# Altium footprint library SOT_SMD.PcbLib: 23 footprints (part 2 of 2)
Each footprint in its own frame and in the unit in brackets; x right, y up, seen from the top. Pads: shape width x height; smd on the part's side, far side on the other; paste and mask are expansions set on the pad; w line width, h text height; cw(c..) or ccw(c..) is an arc to the next point about the centre after c.
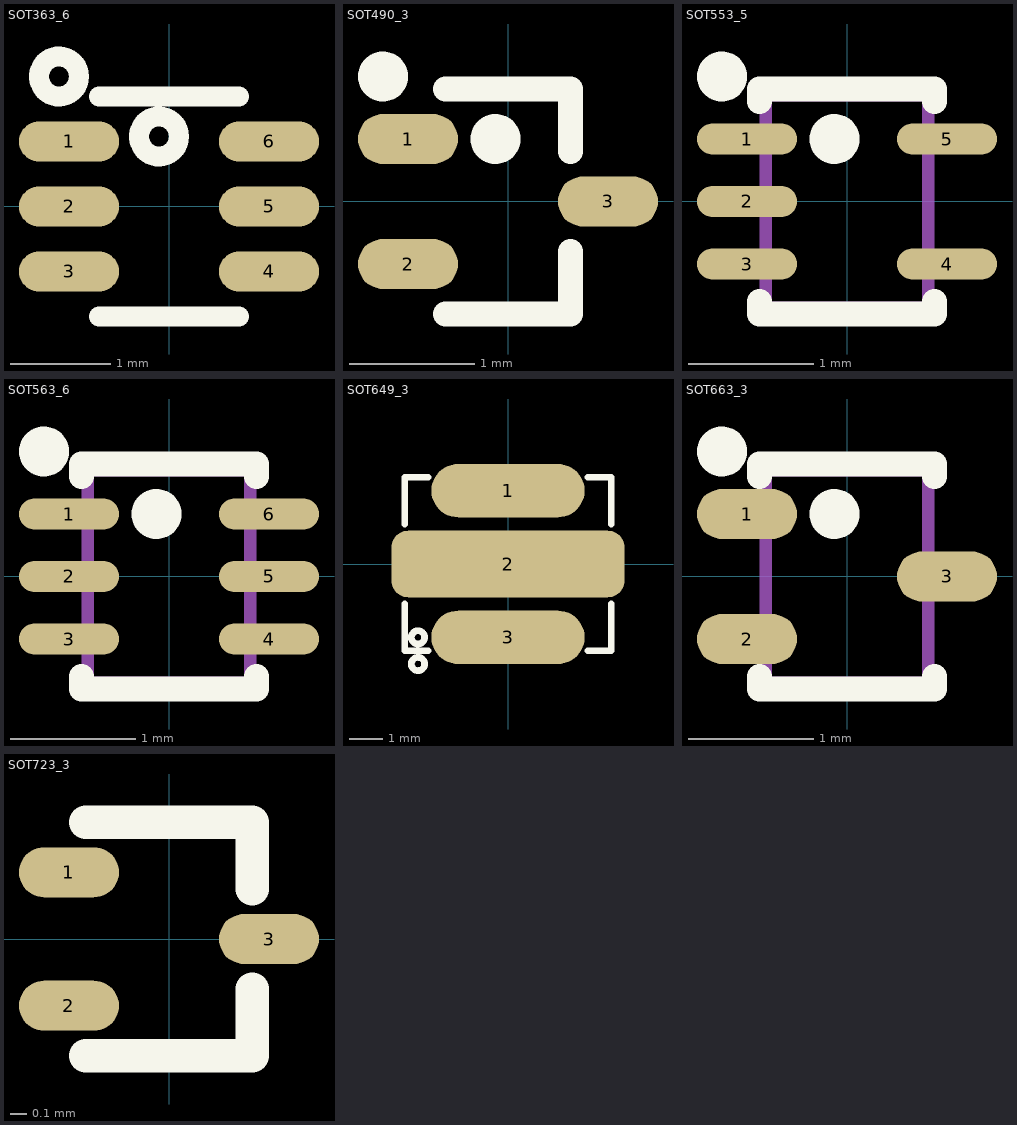
[diagram p1: the footprints below, top view; thin cyan lines are the x and y axes]

## SOT363_6 [mm] "SOT-363, SC-70-6, DCK, BFS483, SC-88, MO-203AB, DSO65_6_200X130"
height 1
pads (6):
  oval 1x0.4 smd mask+0.075: 1(-1,0.65) 2(-1,0) 3(-1,-0.65) 4(1,-0.65) 5(1,0) 6(1,0.65)
Top Overlay:
  circle w0.2: c-1.1,1.3 r0.2
  circle w0.2: c-0.1,0.7 r0.2
  lines w0.2: -0.7,-1.1 0.7,-1.1 ; -0.7,1.1 0.7,1.1
3D body "User Library-sot363.step": height 1, standoff 0, extent -1.15,-1.05 1.15,1.05

## SOT490_3 [mm] "SOT490 SC-89, SOT523F, 3 LEAD, Body 1.6x0.8mm, Pitch 1.0mm, SSM, EMT3F"
height 0.6
pads (3):
  oval 0.8x0.4 smd mask+0.075: 1(-0.8,0.5) 2(-0.8,-0.5) 3(0.8,0)
Top Overlay:
  circle w0.2: c-0.1,0.5 r0.1
  circle w0.2: c-1,1 r0.1
  lines w0.2: -0.5,-0.9 0.5,-0.9 0.5,-0.4 ; -0.5,0.9 0.5,0.9 0.5,0.4
3D body "SOT490_SC-89.step": height 0.78, standoff 0, extent -0.85,-0.85 0.85,0.85

## SOT553_5 [mm] "SOT-553, DRL, 5 LEAD, 1.2x1.6mm, Pitch 0.50mm, DSO50_5_160X120"
height 0.6
pads (5):
  oval 0.8x0.25 smd mask+0.075: 1(-0.8,0.5) 2(-0.8,0) 3(-0.8,-0.5) 4(0.8,-0.5) 5(0.8,0.5)
Top Overlay:
  circle w0.2: c-0.1,0.5 r0.1
  circle w0.2: c-1,1 r0.1
  lines w0.2: -0.7,-0.8 -0.7,-0.9 0.7,-0.9 0.7,-0.8 ; -0.7,0.8 -0.7,0.9 0.7,0.9 0.7,0.8
Mechanical 13:
  lines w0.1: -0.65,-0.85 -0.65,0.85 0.65,0.85 0.65,-0.85 -0.65,-0.85
3D body "User Library-sot-553.STEP": height 0.45, standoff -0.05, extent -0.8,-0.8 0.8,0.8

## SOT563_6 [mm] "SOT-563, SOT-666, 6 LEAD, Body 1.2x1.6mm, Pitch 0.50mm"
height 0.6
pads (6):
  oval 0.8x0.25 smd mask+0.075: 1(-0.8,0.5) 2(-0.8,0) 3(-0.8,-0.5) 4(0.8,-0.5) 5(0.8,0) 6(0.8,0.5)
Top Overlay:
  circle w0.2: c-0.1,0.5 r0.1
  circle w0.2: c-1,1 r0.1
  lines w0.2: -0.7,-0.8 -0.7,-0.9 0.7,-0.9 0.7,-0.8 ; -0.7,0.8 -0.7,0.9 0.7,0.9 0.7,0.8
Mechanical 13:
  lines w0.1: -0.65,-0.85 -0.65,0.85 0.65,0.85 0.65,-0.85 -0.65,-0.85
3D body "User Library-SOT-563.step": height 0.58, standoff 0, extent -0.813,-0.8 0.813,0.8

## SOT649_3 [mm] "RD07MUS2B, 6X4.9mm"
height 0.75
pads (3):
  oval 4.6x1.6 smd: 1(0,2.2) 3(0,-2.2)
  rrect50% 7x2 smd: 2(0,0)
Top Overlay:
  circle w0.2: c-2.7,-3 r0.2
  circle w0.2: c-2.7,-2.2 r0.2
  lines w0.2: -3.1,-1.2 -3.1,-2.6 -2.4,-2.6 ; -3.1,1.2 -3.1,2.6 -2.4,2.6 ; 2.4,-2.6 3.1,-2.6 3.1,-1.2 ; 2.4,2.6 3.1,2.6 3.1,1.2
3D body: height 0.75, standoff 0, extent -3,-2.5 3,2.5

## SOT663_3 [mm] "SOT-663, 3 LEAD, Body 1.2x1.6mm, Pitch 0.50mm"
height 0.6
pads (3):
  oval 0.8x0.4 smd mask+0.075: 1(-0.8,0.5) 2(-0.8,-0.5) 3(0.8,0)
Top Overlay:
  circle w0.2: c-0.1,0.5 r0.1
  circle w0.2: c-1,1 r0.1
  lines w0.2: -0.7,-0.8 -0.7,-0.9 0.7,-0.9 0.7,-0.8 ; -0.7,0.8 -0.7,0.9 0.7,0.9 0.7,0.8
Mechanical 13:
  lines w0.1: -0.65,-0.85 -0.65,0.85 0.65,0.85 0.65,-0.85 -0.65,-0.85
3D body "SOT663_3-.step": height 0.6, standoff 0, extent -0.8,-0.798 0.8,0.798

## SOT723_3 [mm] "VMT3, SC-105AA, SOT-723, 3 LEAD, Body 1.2x0.8mm, Pitch 0.8mm"
height 0.6
pads (3):
  oval 0.6x0.3 smd mask+0.075: 1(-0.6,0.4) 2(-0.6,-0.4) 3(0.6,0)
Top Overlay:
  lines w0.2: -0.5,-0.7 0.5,-0.7 0.5,-0.3 ; -0.5,0.7 0.5,0.7 0.5,0.3
3D body "User Library-SOT-723.step": height 0.45, standoff -0.01, extent -0.55,-0.625 0.5,0.625